# EAGLE library part 74*2GU04 (library ipas)
INVERTER Gate
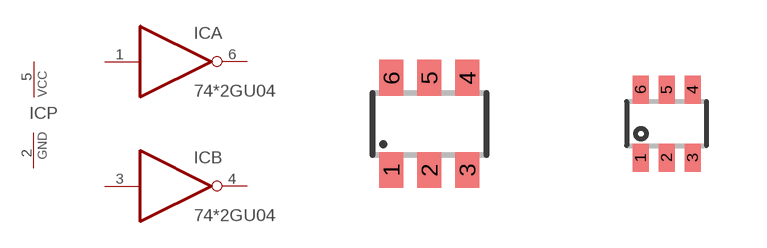
[diagram p0: symbol with the pads of SOT23-6; footprints SOT23-6, SC70-6]

Designator prefix IC; gates A=7404 B=7404 P=PWRN

## 742GU04DBV, 74LVC2GU04DBV  [SOT23-6]
1  A:I  in
2  P:GND  pwr
3  B:I  in
4  B:O  out
5  P:VCC  pwr
6  A:O  out

## 742GU04DCK, 74LVC2GU04DCK  [SC70-6]
Pads as for SOT23-6

## Footprint SOT23-6 (pad centres in mm)
Small Outline Transistor 6 lead
smd 0.6 x 0.9: 1 -0.95,-1.15; 2 0,-1.15; 3 0.95,-1.15; 4 0.95,1.15; 5 0,1.15; 6 -0.95,1.15

## Footprint SC70-6 (pad centres in mm)
SMT SC70-6 Source:
smd 0.4 x 0.7: 1 -0.65,-0.85; 2 0,-0.85; 3 0.65,-0.85; 4 0.65,0.85; 5 0,0.852; 6 -0.65,0.85